# Altium schematic symbol library 稳压管.SchLib: 5 symbols
Pins are listed as number, name and electrical type; pins without a type are passive.

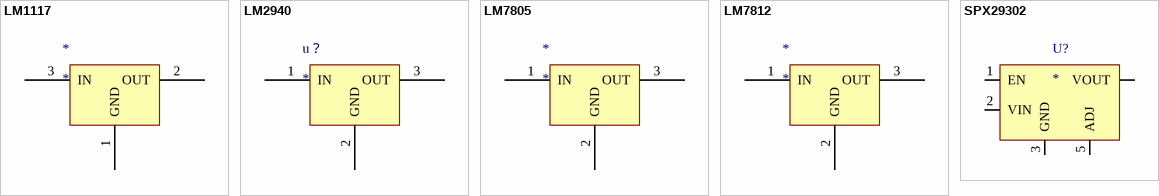
[diagram p0: symbols LM1117 to SPX29302]

## LM1117
designator *
pins: 1 GND, 2 OUT, 3 IN

## LM2940
designator u？
pins: 1 IN, 2 GND, 3 OUT

## LM7805
designator *
pins: 1 IN, 2 GND, 3 OUT

## LM7812
designator *
pins: 1 IN, 2 GND, 3 OUT

## SPX29302
designator U?
pins: 1 EN, 2 VIN, 3 GND, 4 VOUT, 5 ADJ